# Altium footprint library Footprint.PcbLib: 42 footprints (part 1 of 3)
Each footprint in its own frame and in the unit in brackets; x right, y up, seen from the top. Pads: shape width x height; smd on the part's side, far side on the other; paste and mask are expansions set on the pad; w line width, h text height; cw(c..) or ccw(c..) is an arc to the next point about the centre after c.
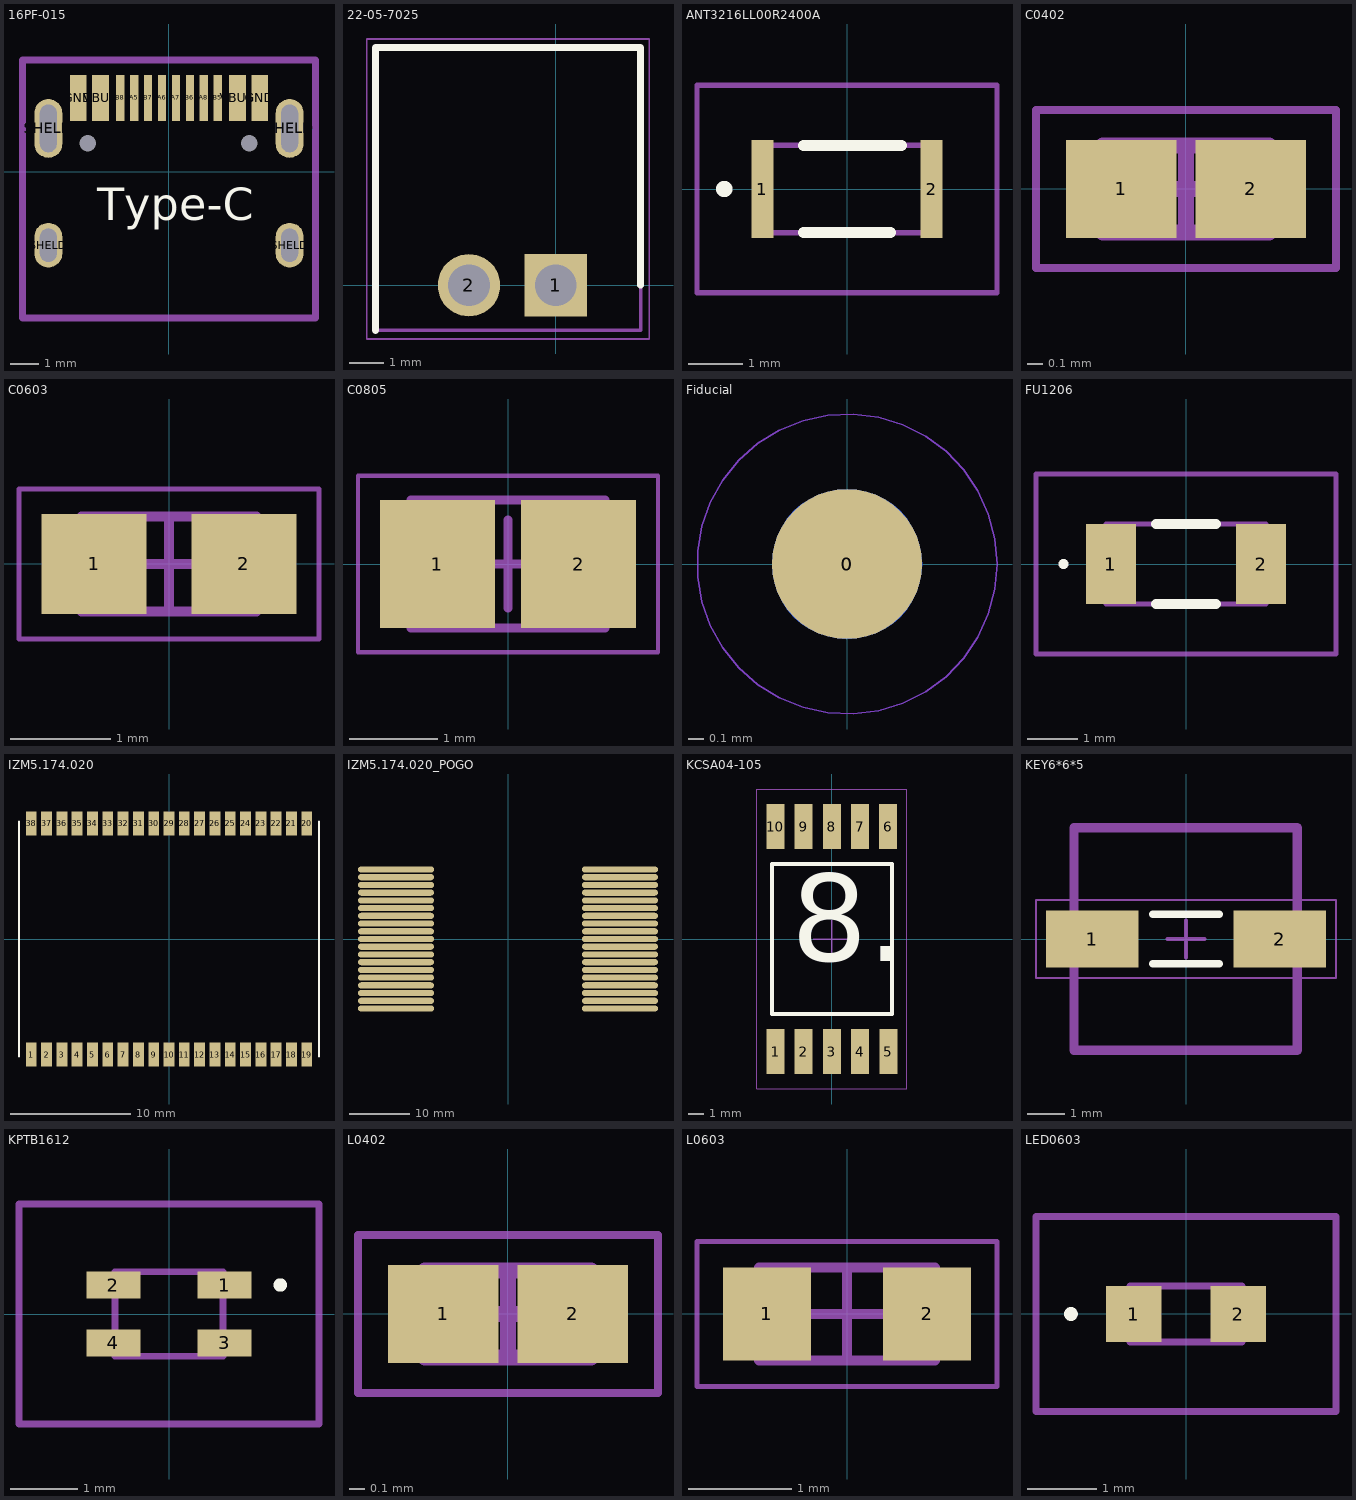
[diagram p0: the footprints below, top view; thin cyan lines are the x and y axes]

## 16PF-015 [mm] "https://sl.aliexpress.ru/p?key=01Sq3dR / USB3.1 TYPE-C 16PF-015, Разъем USB 3.1 тип С, 16 контактов / https://www.chipdip.ru/product/usb3.1-type-c-16pf-015-razem-usb-3.1-tip-s-16-ruichi-9000888045"
pads (18):
  round 0 hole 0.6: 0(-2.91,1.013) 0(2.87,1.013)
  rect 0.3x1.64 smd: A5(-1.25,2.638) A6(-0.25,2.638) A7(0.25,2.638) A8(1.25,2.638) B5(1.75,2.638) B6(0.75,2.638) B7(-0.75,2.638) B8(-1.75,2.638)
  rect 0.6x1.64 smd: GND(-3.25,2.638) GND(3.25,2.638) VBUS(-2.45,2.638) VBUS(2.45,2.638)
  oval 1x1.6 hole 0.6 slot 1.2 at 90 deg: SHELD(-4.32,-2.637) SHELD(4.32,-2.637)
  oval 1x2.1 hole 0.6 slot 1.7 at 90 deg: SHELD(-4.32,1.543) SHELD(4.32,1.543)
Top Overlay:
  text "Type-C" at -2.578,-2.133 h2
Mechanical 15:
  lines w0.254: -5.25,-5.25 5.25,-5.25 5.25,4 -5.25,4 -5.25,-5.25
3D body "HRO  TYPE-C-31-M-12.step": height 3.21, standoff -1, extent -4.485,-5.225 4.455,2.675

## 22-05-7025 [mm] "Угловая Molex"
pads (2):
  rect 1.8x1.8 / inner round 1.8 / far side rect 1.8x1.8 hole 1.2: 1(0,0)
  round 1.8 hole 1.2: 2(-2.5,0)
Top Overlay:
  lines w0.2: -5.2,-1.3 -5.2,6.85 2.45,6.85 2.45,0
Mechanical 15:
  lines w0.1: -5.2,-1.3 2.45,-1.3 2.45,6.85 -5.2,6.85 -5.2,-1.3
Mechanical 20:
  lines w0.05: -5.45,-1.55 2.7,-1.55 2.7,7.1 -5.45,7.1 -5.45,-1.55
3D body "22-05-7025.stp": height 4.95, standoff -3.45, extent -4.9,-1.35 2.5,6.55

## ANT3216LL00R2400A [mm]
pads (2):
  rect 0.4x1.8 smd: 1(-1.55,0) 2(1.55,0)
Top Overlay:
  lines w0.2: -2.3,0 ccw(c-2.25,0) -2.2,0 ; -2.3,0 cw(c-2.25,0) -2.2,0 ; -2.3,0 ccw(c-2.25,0) -2.2,0 ; -0.8,-0.8 0.8,-0.8 -0.8,-0.8 ; -0.8,0.8 1,0.8 -0.8,0.8
Mechanical 15:
  lines w0.1: -1.6,-0.8 1.6,-0.8 1.6,0.8 -1.6,0.8 -1.6,-0.8
Mechanical 20:
  lines w0.1: -2.75,-1.9 2.75,-1.9 2.75,1.9 -2.75,1.9 -2.75,-1.9
3D body "ANT3216LL00R2400A.stp": height 1.21, standoff 0, extent -1.6,-0.801 1.6,0.801

## C0402 [mm] "Chip Capacitor, 2-Leads, Body 1.00x0.50mm, IPC Medium Density"
height 0.55
pads (2):
  rect 0.7x0.62 smd: 1(-0.41,0) 2(0.41,0)
Mechanical 13:
  lines w0.1: -0.525,-0.275 -0.525,0.275 0.525,0.275 0.525,-0.275 -0.525,-0.275
Mechanical 15:
  lines w0.05: -0.95,-0.5 -0.95,0.5 0.95,0.5 0.95,-0.5 -0.95,-0.5
  lines w0.1: -0.275,0 0.275,0 ; 0,-0.275 0,0.275
3D body "C0402.step": height 0.55, standoff 0, extent -0.525,-0.275 0.525,0.275

## C0603 [mm] "Chip Capacitor, 2-Leads, Body 1.60x0.80mm, IPC Medium Density"
height 0.95
pads (2):
  rect 1.05x1 smd: 1(-0.75,0) 2(0.75,0)
Mechanical 13:
  lines w0.1: -0.875,-0.475 -0.875,0.475 0.875,0.475 0.875,-0.475 -0.875,-0.475
Mechanical 15:
  lines w0.05: -1.5,-0.75 -1.5,0.75 1.5,0.75 1.5,-0.75 -1.5,-0.75
  lines w0.1: -0.475,0 0.475,0 ; 0,-0.475 0,0.475
3D body "C0603.step": height 0.95, standoff 0, extent -0.875,-0.475 0.875,0.475

## C0805 [mm] "Chip Capacitor, 2-Leads, Body 2.00x1.25mm, IPC Medium Density"
height 1.55
pads (2):
  rect 1.3x1.45 smd: 1(-0.8,0) 2(0.8,0)
Mechanical 13:
  lines w0.1: -1.1,-0.725 1.1,-0.725 1.1,0.725 -1.1,0.725 -1.1,-0.725
Mechanical 15:
  lines w0.05: -1.7,-1 1.7,-1 1.7,1 -1.7,1 -1.7,-1
  lines w0.1: -0.5,0 0.5,0 ; 0,-0.5 0,0.5
3D body "C0805.step": height 1.55, standoff 0, extent -1.1,-0.725 1.1,0.725

## Fiducial [mm] "Fiducial Mark"
pads (2):
  round 1 smd paste+0 mask+0.5: 0(0,0)
  round 1 smd far side paste+0 mask+0.5: 0(0,0)
Top Layer keep-out:
  circle w0.01: c0,0 r1
Bottom Layer keep-out:
  circle w0.01: c0,0 r1

## FU1206 [mm] "MF-NSMF"
pads (2):
  rect 1x1.6 smd: 1(-1.5,0) 2(1.5,0)
Top Overlay:
  lines w0.1: -2.5,0 cw(c-2.45,0) -2.4,0 cw(c-2.45,0) -2.5,0
  lines w0.2: -0.6,-0.8 0.6,-0.8 ; -0.6,0.8 0.6,0.8
Mechanical 15:
  lines w0.1: -1.6,-0.8 -1.6,0.8 1.6,0.8 1.6,-0.8 -1.6,-0.8
Mechanical 20:
  lines w0.1: -3,-1.8 -3,1.8 3,1.8 3,-1.8 -3,-1.8
3D body "MF-NSMF050_16X-2.stp": height 0.42, standoff -0.43, extent -1.7,-0.9 1.7,0.9

## IZM5.174.020 [mm]
pads (38):
  rect 0.9x2 smd: 1(-11.43,-9.598) 2(-10.16,-9.598) 3(-8.89,-9.598) 4(-7.62,-9.598) 5(-6.35,-9.598) 6(-5.08,-9.598) 7(-3.81,-9.598) 8(-2.54,-9.598) 9(-1.27,-9.598) 10(0,-9.598) 11(1.27,-9.598) 12(2.54,-9.598) 13(3.81,-9.598) 14(5.08,-9.598) 15(6.35,-9.598) 16(7.62,-9.598) 17(8.89,-9.598) 18(10.16,-9.598) 19(11.43,-9.598) 20(11.43,9.598) 21(10.16,9.598) 22(8.89,9.598) 23(7.62,9.598) 24(6.35,9.598) 25(5.08,9.598) 26(3.81,9.598) 27(2.54,9.598) 28(1.27,9.598) 29(0,9.598) 30(-1.27,9.598) 31(-2.54,9.598) 32(-3.81,9.598) 33(-5.08,9.598) 34(-6.35,9.598) 35(-7.62,9.598) 36(-8.89,9.598) 37(-10.16,9.598) 38(-11.43,9.598)
Top Overlay:
  lines w0.127: -12.446,-9.779 -12.446,9.779 ; 12.446,-9.779 12.446,9.779
3D body "5.174.0202.step": height 3.6, standoff -0.03, extent -12.5,-9.721 12.5,9.779

## IZM5.174.020_POGO [mm] "P75-B1"
pads (38):
  oval 12.5x1.02 smd: 1(-18.415,11.43) 2(-18.415,10.16) 3(-18.415,8.89) 4(-18.415,7.62) 5(-18.415,6.35) 6(-18.415,5.08) 7(-18.415,3.81) 8(-18.415,2.54) 9(-18.415,1.27) 10(-18.415,0) 11(-18.415,-1.27) 12(-18.415,-2.54) 13(-18.415,-3.81) 14(-18.415,-5.08) 15(-18.415,-6.35) 16(-18.415,-7.62) 17(-18.415,-8.89) 18(-18.415,-10.16) 19(-18.415,-11.43) 20(18.415,-11.43) 21(18.415,-10.16) 22(18.415,-8.89) 23(18.415,-7.62) 24(18.415,-6.35) 25(18.415,-5.08) 26(18.415,-3.81) 27(18.415,-2.54) 28(18.415,-1.27) 29(18.415,0) 30(18.415,1.27) 31(18.415,2.54) 32(18.415,3.81) 33(18.415,5.08) 34(18.415,6.35) 35(18.415,7.62) 36(18.415,8.89) 37(18.415,10.16) 38(18.415,11.43)
3D body "P75-B1.stp": height 1.01, standoff -0.01, extent 8.815,9.65 24.665,10.67
3D body "P75-B1.stp": height 1.01, standoff -0.01, extent 8.815,-11.94 24.665,-10.92
3D body "P75-B1.stp": height 1.01, standoff -0.01, extent 8.815,-10.67 24.665,-9.65
3D body "P75-B1.stp": height 1.01, standoff -0.01, extent 8.815,-9.4 24.665,-8.38
3D body "P75-B1.stp": height 1.01, standoff -0.01, extent 8.815,-8.13 24.665,-7.11
3D body "P75-B1.stp": height 1.01, standoff -0.01, extent 8.815,-6.86 24.665,-5.84
3D body "P75-B1.stp": height 1.01, standoff -0.01, extent 8.815,-5.59 24.665,-4.57
3D body "P75-B1.stp": height 1.01, standoff -0.01, extent 8.815,-4.32 24.665,-3.3
3D body "P75-B1.stp": height 1.01, standoff -0.01, extent 8.815,-3.05 24.665,-2.03
3D body "P75-B1.stp": height 1.01, standoff -0.01, extent 8.815,-1.78 24.665,-0.76
3D body "P75-B1.stp": height 1.01, standoff -0.01, extent 8.815,-0.51 24.665,0.51
3D body "P75-B1.stp": height 1.01, standoff -0.01, extent 8.815,0.76 24.665,1.78
3D body "P75-B1.stp": height 1.01, standoff -0.01, extent 8.815,2.03 24.665,3.05
3D body "P75-B1.stp": height 1.01, standoff -0.01, extent 8.815,3.3 24.665,4.32
3D body "P75-B1.stp": height 1.01, standoff -0.01, extent 8.815,4.57 24.665,5.59
3D body "P75-B1.stp": height 1.01, standoff -0.01, extent 8.815,5.84 24.665,6.86
3D body "P75-B1.stp": height 1.01, standoff -0.01, extent 8.815,7.11 24.665,8.13
3D body "P75-B1.stp": height 1.01, standoff -0.01, extent 8.815,8.38 24.665,9.4
3D body "P75-B1.stp": height 1.01, standoff -0.01, extent 8.815,10.92 24.665,11.94
3D body "P75-B1.stp": height 1.01, standoff -0.01, extent -24.665,-10.67 -8.815,-9.65
3D body "P75-B1.stp": height 1.01, standoff -0.01, extent -24.665,10.92 -8.815,11.94
3D body "P75-B1.stp": height 1.01, standoff -0.01, extent -24.665,9.65 -8.815,10.67
3D body "P75-B1.stp": height 1.01, standoff -0.01, extent -24.665,8.38 -8.815,9.4
3D body "P75-B1.stp": height 1.01, standoff -0.01, extent -24.665,7.11 -8.815,8.13
3D body "P75-B1.stp": height 1.01, standoff -0.01, extent -24.665,5.84 -8.815,6.86
3D body "P75-B1.stp": height 1.01, standoff -0.01, extent -24.665,4.57 -8.815,5.59
3D body "P75-B1.stp": height 1.01, standoff -0.01, extent -24.665,3.3 -8.815,4.32
3D body "P75-B1.stp": height 1.01, standoff -0.01, extent -24.665,2.03 -8.815,3.05
3D body "P75-B1.stp": height 1.01, standoff -0.01, extent -24.665,0.76 -8.815,1.78
3D body "P75-B1.stp": height 1.01, standoff -0.01, extent -24.665,-0.51 -8.815,0.51
3D body "P75-B1.stp": height 1.01, standoff -0.01, extent -24.665,-1.78 -8.815,-0.76
3D body "P75-B1.stp": height 1.01, standoff -0.01, extent -24.665,-3.05 -8.815,-2.03
3D body "P75-B1.stp": height 1.01, standoff -0.01, extent -24.665,-4.32 -8.815,-3.3
3D body "P75-B1.stp": height 1.01, standoff -0.01, extent -24.665,-5.59 -8.815,-4.57
3D body "P75-B1.stp": height 1.01, standoff -0.01, extent -24.665,-6.86 -8.815,-5.84
3D body "P75-B1.stp": height 1.01, standoff -0.01, extent -24.665,-8.13 -8.815,-7.11
3D body "P75-B1.stp": height 1.01, standoff -0.01, extent -24.665,-9.4 -8.815,-8.38
3D body "P75-B1.stp": height 1.01, standoff -0.01, extent -24.665,-11.94 -8.815,-10.92

## KCSA04-105 [mm] "2"
pads (10):
  rect 1.2x3 smd: 1(-3.758,-7.5) 2(-1.878,-7.5) 3(0.002,-7.5) 4(1.882,-7.5) 5(3.762,-7.5) 6(3.758,7.5) 7(1.878,7.5) 8(-0.002,7.5) 9(-1.882,7.5) 10(-3.762,7.5)
Top Overlay:
  lines w0.254: -4,-5 -4,5 4,5 4,-5 -4,-5
  text "8." at -2.722,-3.375 h10
Mechanical 15:
  lines w0.05: -5,-10 5,-10 5,10 -5,10 -5,-10
  lines w0.1: -1.25,0 1.25,0 ; 0,-1.25 0,1.25
3D body "KCSAV1.stp": height 3.75, standoff 0, extent -4.55,-7.5 4.55,7.5

## KEY6*6*5 [mm]
height 5
pads (2):
  rect 2.5x1.54 smd: 1(-2.53,0) 2(2.53,0)
Top Overlay:
  lines w0.2: -0.9,-0.67 0.9,-0.67 ; -0.9,0.67 0.9,0.67
Mechanical 13:
  lines w0.254: -3.025,-3 3,-3 3,3 -3.025,3 -3.025,-3
Mechanical 15:
  lines w0.05: -4.05,-1.05 4.05,-1.05 4.05,1.05 -4.05,1.05 -4.05,-1.05
  lines w0.1: -0.5,0 0.5,0 ; 0,-0.5 0,0.5
3D body "key_6_6_5.stp": height 5, standoff 0, extent -3,-3 3,3

## KPTB1612 [mm]
pads (4):
  rect 0.8x0.4 smd: 1(0.825,0.43) 2(-0.825,0.43) 3(0.825,-0.43) 4(-0.825,-0.43)
Top Overlay:
  lines w0.1: 1.6,0.43 ccw(c1.65,0.43) 1.7,0.43 ccw(c1.65,0.43) 1.6,0.43
Mechanical 15:
  lines w0.1: -0.8,-0.625 0.8,-0.625 0.8,0.625 -0.8,0.625 -0.8,-0.625
Mechanical 20:
  lines w0.1: -2.225,-1.63 2.225,-1.63 2.225,1.63 -2.225,1.63 -2.225,-1.63
3D body "KPTB-1612.stp": height 0.65, standoff 0, extent -0.8,-0.625 0.8,0.625

## L0402 [mm] "Chip Inductor, 2-Leads, Body 1.00x0.50mm, IPC Medium Density"
height 0.55
pads (2):
  rect 0.7x0.62 smd: 1(-0.41,0) 2(0.41,0)
Mechanical 13:
  lines w0.1: -0.525,-0.275 -0.525,0.275 0.525,0.275 0.525,-0.275 -0.525,-0.275
Mechanical 15:
  lines w0.05: -0.95,-0.5 -0.95,0.5 0.95,0.5 0.95,-0.5 -0.95,-0.5
  lines w0.1: -0.275,0 0.275,0 ; 0,-0.275 0,0.275
3D body "L0402.stp": height 0.55, standoff 0, extent -0.525,-0.275 0.525,0.275

## L0603 [mm] "Chip Inductor, 2-Leads, Body 1.60x0.80mm, IPC Medium Density"
height 0.55
pads (2):
  rect 0.85x0.9 smd: 1(-0.775,0) 2(0.775,0)
Mechanical 13:
  lines w0.1: -0.85,-0.45 0.85,-0.45 0.85,0.45 -0.85,0.45 -0.85,-0.45
Mechanical 15:
  lines w0.05: -1.45,-0.7 1.45,-0.7 1.45,0.7 -1.45,0.7 -1.45,-0.7
  lines w0.1: -0.45,0 0.45,0 ; 0,-0.45 0,0.45
3D body "L0603.stp": height 0.95, standoff 0, extent -0.875,-0.475 0.875,0.475

## LED0603 [mm]
pads (2):
  rect 0.8x0.8 smd: 1(-0.75,0) 2(0.75,0)
Top Overlay:
  lines w0.1: -1.7,0 ccw(c-1.65,0) -1.6,0 ccw(c-1.65,0) -1.7,0
Mechanical 13:
  lines w0.1: -0.8,-0.4 -0.8,0.4 0.8,0.4 0.8,-0.4 -0.8,-0.4
Mechanical 15:
  lines w0.1: -2.15,-1.4 -2.15,1.4 2.15,1.4 2.15,-1.4 -2.15,-1.4
3D body "FYLS-0603UYC.stp": height 1.15, standoff 0, extent -0.8,-0.4 0.8,0.4